# Altium footprint library Mounting_Hole.PcbLib: 1 footprints
Each footprint in its own frame and in the unit in brackets; x right, y up, seen from the top. Pads: shape width x height; smd on the part's side, far side on the other; paste and mask are expansions set on the pad; w line width, h text height; cw(c..) or ccw(c..) is an arc to the next point about the centre after c.
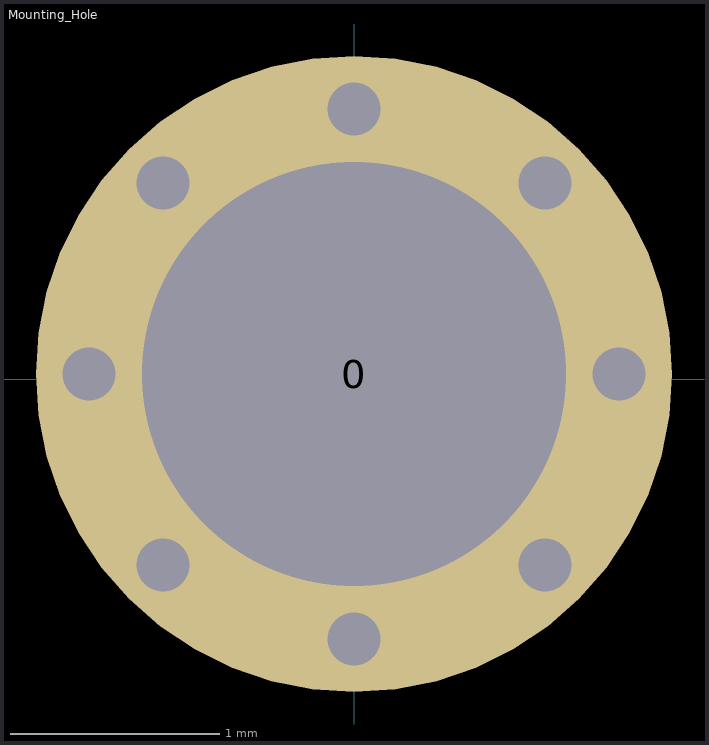
[diagram p0: the footprint, top view; thin cyan lines are the x and y axes]

## Mounting_Hole [mil]
pads (9):
  round 120 hole 80: 0(0,1)
  round 0 hole 10: 3(50,1)
  round 0 hole 10 paste+0 mask+0: 4(-50,1) 5(0,51) 6(0,-49) 7(-36,37) 8(36,-35) 9(-36,-35) 10(36,37)